# Altium integrated library BD536.IntLib: 1 symbol
Pins are listed as number, name and electrical type; pins without a type are passive.

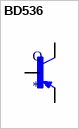
[diagram p0: symbol BD536]

## BD536
designator Q
Bipolar (BJT) Transistor PNP 60V 8A 50W Through Hole TO-220AB; MF: STMicroelectronics; MP: BD536; Price: None; Value: *; Availability: Unavailable; SnapEDA_Link: https://www.snapeda.com/parts/BD536/STMicroelectronics/view-part/561843/?ref=snap; Package: TO-220 STMicroelectronics
footprint TO220
pins: 1 B, 2 C, 3 E